# Altium integrated library ZC142200.IntLib: 1 symbol
Pins are listed as number, name and electrical type; pins without a type are passive.

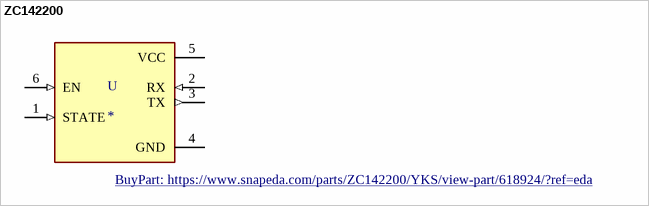
[diagram p0: symbol ZC142200]

## ZC142200
designator U
1pc HC-05 6 Pin Wireless Bluetooth RF Transceiver Module Serial For Arduino; MP: ZC142200; MF: YKS; Availability: Unavailable; SnapEDA_Link: https://www.snapeda.com/parts/ZC142200/YKS/view-part/618924/?ref=snap; Value: *; Price: None; Package: None; BuyPart: https://www.snapeda.com/parts/ZC142200/YKS/view-part/618924/?ref=eda
footprint MODULE_ZC142200
pins: 1 STATE (in), 2 RX (in), 3 TX (out), 4 GND (power), 5 VCC (power), 6 EN (in)